# Altium footprint library BC9VPC.PcbLib: 2 footprints
Each footprint in its own frame and in the unit in brackets; x right, y up, seen from the top. Pads: shape width x height; smd on the part's side, far side on the other; paste and mask are expansions set on the pad; w line width, h text height; cw(c..) or ccw(c..) is an arc to the next point about the centre after c.
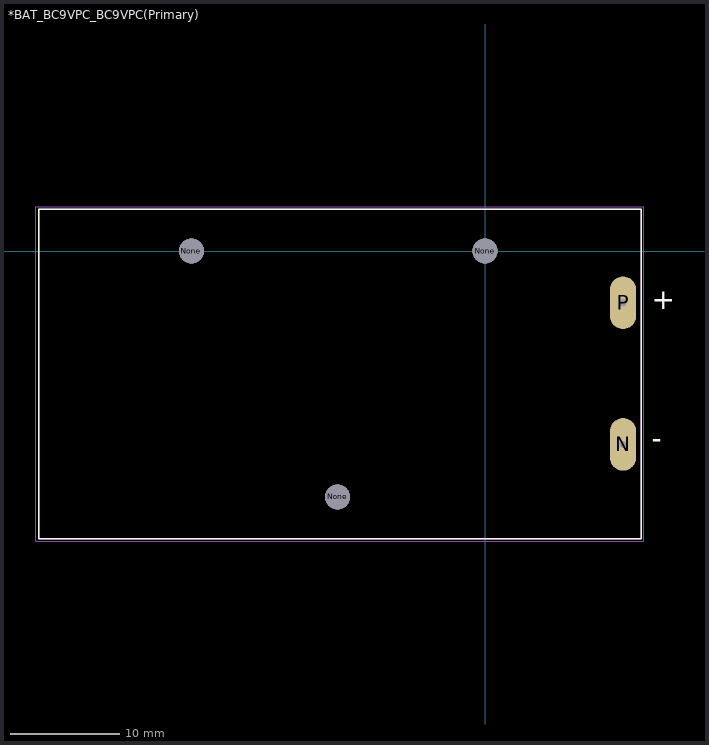
[diagram p0: the footprints below, top view; thin cyan lines are the x and y axes]

## *BAT_BC9VPC_BC9VPC(Primary) [mm]
pads (5):
  oval 2.41x4.82 hole 0.66: N(12.62,-17.69) P(12.62,-4.74)
  round 2.29 hole 2.29 unplated: None(-26.87,0) None(-13.49,-22.5) None(0,0)
Top Overlay:
  lines w0.127: -40.85,-26.31 -40.85,3.81 14.27,3.81 14.27,-26.31 -40.85,-26.31
  text "+" at 15.24,-5.33 h1.88
  text "-" at 15.24,-18.03 h1.88
Mechanical 1:
  lines w0: 12.29,-18.645 12.95,-18.645 12.95,-16.735 12.29,-16.735 12.29,-18.645 ; 12.29,-5.695 12.95,-5.695 12.95,-3.785 12.29,-3.785 12.29,-5.695
Mechanical 4:
  lines w0.127: -40.85,-26.31 -40.85,3.81 ; -40.85,-26.31 14.27,-26.31 ; -40.85,-26.31 -40.85,3.81 ; -40.85,-26.31 14.27,-26.31 ; -40.85,3.81 14.27,3.81 ; -40.85,3.81 14.27,3.81 ; 14.27,-26.31 14.27,3.81 ; 14.27,-26.31 14.27,3.81
  text "Refer datasheet for NPTH countersink dimensions" at -41.91,-33.27 h1.88
  text "+" at 15.24,-5.33 h1.88
  text "-" at 15.24,-18.03 h1.88
  text "Refer datasheet for NPTH countersink dimensions" at -41.91,-33.27 h1.88
  text "+" at 15.24,-5.33 h1.88
  text "-" at 15.24,-18.03 h1.88
Mechanical 16:
  lines w0.05: -41.1,-26.56 -41.1,4.06 14.52,4.06 14.52,-26.56 -41.1,-26.56

## PCBComponent_1 [mm]